# Altium schematic symbol library Capacitors.SchLib: 88 symbols (part 1 of 2)
Pins are listed as number, name and electrical type; pins without a type are passive.

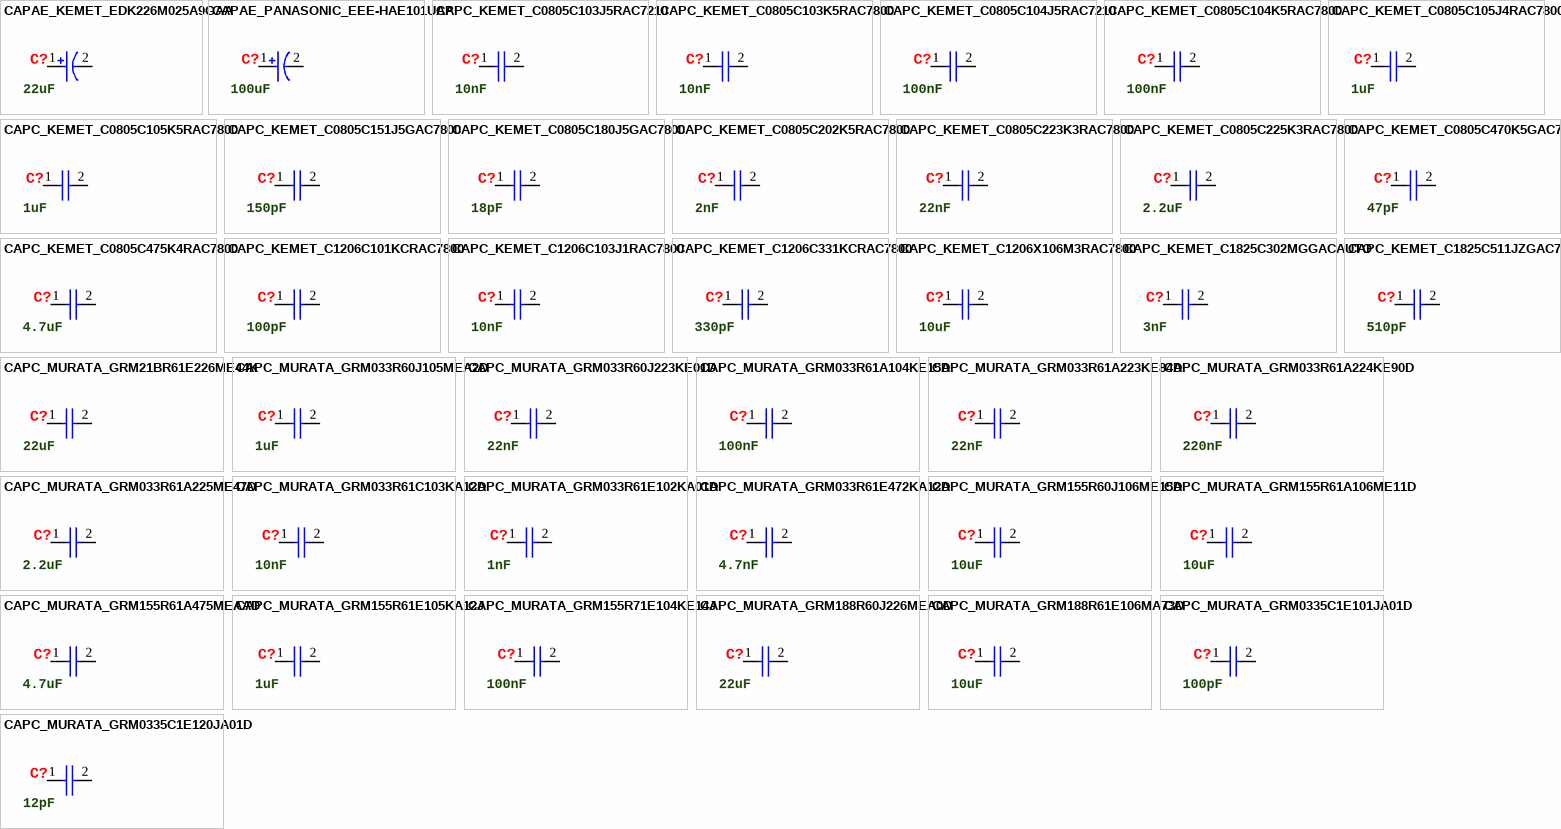
[diagram p0: symbols CAPAE_KEMET_EDK226M025A9GAA to CAPC_MURATA_GRM0335C1E120JA01D]

## CAPAE_KEMET_EDK226M025A9GAA
designator C?, comment 22uF
22 µF 25 V Aluminum Electrolytic Capacitor Radial, Can; Manufacturer: KEMET; Manufacturer Part Number: EDK226M025A9GAA; Tolerance: 20%; Voltage Rating (DC): 25V; Category: Aluminum Electrolytic Capacitors; Case/Package: Radial; Min Operating Temperature: -40°C; Max Operating Temperature: 85°C; Capacitance: 22uF; RoHS Compliant: Yes; ComponentLink1URL: https://api.kemet.com/component-edge/download/datasheet/EDK226M025A9GAA.pdf; ComponentLink1Description: Datasheet; Supplier 1: Digi-Key; Supplier Part Number 1: 399-6677-1-ND; Supplier 2: Mouser; Supplier Part Number 2: 80-EDK226M025A9GAA; Mounting Type: SMD/SMT
simulation model KEMET_EDK226M025A9GAA (Model Description)
footprint CAPAE7866X56N (Aluminum Electrolytic Capacitor, Body 6.60x6.60x5.65mm, IPC Medium Density)
footprint CAPAE7866X56L (Aluminum Electrolytic Capacitor, Body 6.60x6.60x5.65mm, IPC High Density)
footprint CAPAE7866X56M (Aluminum Electrolytic Capacitor, Body 6.60x6.60x5.65mm, IPC Low Density)
pins: 1, 2

## CAPAE_PANASONIC_EEE-HAE101UAP
designator C?, comment 100uF
100 µF ±20% 25V Aluminum Electrolytic Capacitor Radial, Can; Manufacturer: Panasonic; Manufacturer Part Number: EEE-HAE101UAP; Category: Aluminum Electrolytic Capacitors; Case/Package: Radial; Min Operating Temperature: -40°C; Max Operating Temperature: 105°C; Tolerance: 20%; Voltage Rating (DC): 25V; RoHS Compliant: Yes; ComponentLink1URL: https://industrial.panasonic.com/cdbs/www-data/pdf/RDE0000/ABA0000C1148.pdf; ComponentLink1Description: Datasheet; Capacitance: 100uF; Supplier 1: Digi-Key; Supplier Part Number 1: PCE4705CT-ND; Supplier 2: Mouser; Supplier Part Number 2: 667-EEE-HAE101UAP; Mounting Type: SMD/SMT
footprint CAPAE9583X62N (Aluminum Electrolytic Capacitor, Body 8.30x8.30x6.20mm, IPC Medium Density)
footprint CAPAE9583X62L (Aluminum Electrolytic Capacitor, Body 8.30x8.30x6.20mm, IPC High Density)
footprint CAPAE9583X62M (Aluminum Electrolytic Capacitor, Body 8.30x8.30x6.20mm, IPC Low Density)
simulation model EEETP1E101AP (Model Description)
pins: 1, 2

## CAPC_KEMET_C0805C103J5RAC7210
designator C?, comment 10nF
10 nF ±5% 50V Ceramic Capacitor X7R 0805 (2012 Metric); Manufacturer: KEMET; Manufacturer Part Number: C0805C103J5RAC7210; Category: Ceramic Capacitors; Case/Package: 0805; Min Operating Temperature: -55°C; Max Operating Temperature: 125°C; Tolerance: 5%; Capacitance: 10nF; Voltage Rating (DC): 50V; Dielectric: X7R; RoHS Compliant: Yes; ComponentLink1URL: https://connect.kemet.com:7667/gateway/IntelliData-ComponentDocumentation/1.0/download/datasheet/C0805C103J5RAC7210; ComponentLink1Description: Datasheet; Supplier 1: Digi-Key; Supplier Part Number 1: 399-17616-1-ND; Supplier 2: Mouser; Supplier Part Number 2: 80-C0805C103J5R7210; Mounting Type: SMD/SMT
footprint CAPC2012X95N (Chip Capacitor, EIA 0805, Metric 2012, Body 2.00x1.25mm, IPC Medium Density)
footprint CAPC2012X95L (Chip Capacitor, EIA 0805, Metric 2012, Body 2.00x1.25mm, IPC High Density)
footprint CAPC2012X95M (Chip Capacitor, EIA 0805, Metric 2012, Body 2.00x1.25mm, IPC Low Density)
simulation model C0805C103J5RAC7210 (Model Description)
pins: 1, 2

## CAPC_KEMET_C0805C103K5RAC7800
designator C?, comment 10nF
10 nF ±10% 50V Ceramic Capacitor X7R 0805 (2012 Metric); Manufacturer: KEMET; Manufacturer Part Number: C0805C103K5RAC7800; Category: Ceramic Capacitors; Case/Package: 0805; Min Operating Temperature: -55°C; Max Operating Temperature: 125°C; Tolerance: 10%; Dielectric: X7R; Voltage Rating (DC): 50V; RoHS Compliant: Yes; ComponentLink1Description: Datasheet; ComponentLink1URL: https://connect.kemet.com:7667/gateway/IntelliData-ComponentDocumentation/1.0/download/datasheet/C0805C103K5RACTU; Capacitance: 10nF; Supplier 1: Digi-Key; Supplier Part Number 1: 399-C0805C103K5RAC7800CT-ND; Supplier 2: Mouser; Supplier Part Number 2: 80-C0805C103K5R; Mounting Type: SMD/SMT
footprint CAPC2012X95N (Chip Capacitor, EIA 0805, Metric 2012, Body 2.00x1.25mm, IPC Medium Density)
footprint CAPC2012X95L (Chip Capacitor, EIA 0805, Metric 2012, Body 2.00x1.25mm, IPC High Density)
footprint CAPC2012X95M (Chip Capacitor, EIA 0805, Metric 2012, Body 2.00x1.25mm, IPC Low Density)
simulation model C0805C103K5RAC7800 (Model Description)
pins: 1, 2

## CAPC_KEMET_C0805C104J5RAC7210
designator C?, comment 100nF
100 nF ±5% 50V Ceramic Capacitor X7R 0805 (2012 Metric); Manufacturer: KEMET; Manufacturer Part Number: C0805C104J5RAC7210; Category: Ceramic Capacitors; Case/Package: 0805; Min Operating Temperature: -55°C; Max Operating Temperature: 125°C; Capacitance: 100nF; Tolerance: 5%; Dielectric: X7R; Voltage Rating (DC): 50V; RoHS Compliant: Yes; ComponentLink1URL: https://connect.kemet.com:7667/gateway/IntelliData-ComponentDocumentation/1.0/download/datasheet/C0805C103J5RAC7210; ComponentLink1Description: Datasheet; Supplier 1: Digi-Key; Supplier Part Number 1: 399-C0805C104J5RAC7210CT-ND; Supplier 2: Mouser; Supplier Part Number 2: 80-C0805C104J5RACLR; Mounting Type: SMD/SMT
footprint CAPC2012X95N (Chip Capacitor, EIA 0805, Metric 2012, Body 2.00x1.25mm, IPC Medium Density)
footprint CAPC2012X95L (Chip Capacitor, EIA 0805, Metric 2012, Body 2.00x1.25mm, IPC High Density)
footprint CAPC2012X95M (Chip Capacitor, EIA 0805, Metric 2012, Body 2.00x1.25mm, IPC Low Density)
simulation model C0805C104J5RAC7210 (Model Description)
pins: 1, 2

## CAPC_KEMET_C0805C104K5RAC7800
designator C?, comment 100nF
100 nF ±10% 50V Ceramic Capacitor X7R 0805 (2012 Metric); Manufacturer: KEMET; Manufacturer Part Number: C0805C104K5RAC7800; Category: Ceramic Capacitors; Case/Package: 0805; Min Operating Temperature: -55°C; Max Operating Temperature: 125°C; Tolerance: 10%; Dielectric: X7R; Voltage Rating (DC): 50V; RoHS Compliant: Yes; ComponentLink1URL: https://connect.kemet.com:7667/gateway/IntelliData-ComponentDocumentation/1.0/download/datasheet/C0805C105K5RACTU; ComponentLink1Description: Datasheet; Capacitance: 100nF; Supplier 1: Digi-Key; Supplier Part Number 1: 399-C0805C104K5RAC7800CT-ND; Supplier 2: Mouser; Supplier Part Number 2: 80-C0805C104K5R; Mounting Type: SMD/SMT
footprint CAPC2012X95N (Chip Capacitor, EIA 0805, Metric 2012, Body 2.00x1.25mm, IPC Medium Density)
footprint CAPC2012X95M (Chip Capacitor, EIA 0805, Metric 2012, Body 2.00x1.25mm, IPC Low Density)
footprint CAPC2012X95L (Chip Capacitor, EIA 0805, Metric 2012, Body 2.00x1.25mm, IPC High Density)
simulation model C0805C104K5RAC7800 (Model Description)
pins: 1, 2

## CAPC_KEMET_C0805C105J4RAC7800
designator C?, comment 1uF
1 µF ±5% 16V Ceramic Capacitor X7R 0805 (2012 Metric); Manufacturer: KEMET; Manufacturer Part Number: C0805C105J4RAC7800; Category: Ceramic Capacitors; Case/Package: 0805; Min Operating Temperature: -55°C; Max Operating Temperature: 125°C; Capacitance: 1uF; Tolerance: 5%; Dielectric: X7R; Voltage Rating (DC): 16V; RoHS Compliant: Yes; ComponentLink1URL: https://connect.kemet.com:7667/gateway/IntelliData-ComponentDocumentation/1.0/download/datasheet/C0805C105J4RACTU; ComponentLink1Description: Datasheet; Supplier 1: Digi-Key; Supplier Part Number 1: 399-C0805C105J4RAC7800CT-ND; Supplier 2: Mouser; Supplier Part Number 2: 80-C0805C105J4R; Mounting Type: SMD/SMT
footprint CAPC2012X145N (Chip Capacitor, EIA 0805, Metric 2012, Body 2.00x1.25mm, IPC Medium Density)
footprint CAPC2012X145L (Chip Capacitor, EIA 0805, Metric 2012, Body 2.00x1.25mm, IPC High Density)
footprint CAPC2012X145M (Chip Capacitor, EIA 0805, Metric 2012, Body 2.00x1.25mm, IPC Low Density)
simulation model C0805C105J4RAC7800 (Model Description)
pins: 1, 2

## CAPC_KEMET_C0805C105K5RAC7800
designator C?, comment 1uF
1 µF ±10% 50V Ceramic Capacitor X7R 0805 (2012 Metric); Manufacturer: KEMET; Manufacturer Part Number: C0805C105K5RAC7800; Category: Ceramic Capacitors; Case/Package: 0805; Min Operating Temperature: -55°C; Max Operating Temperature: 125°C; Tolerance: 10%; Voltage Rating (DC): 50V; Dielectric: X7R; RoHS Compliant: Yes; ComponentLink1URL: https://connect.kemet.com:7667/gateway/IntelliData-ComponentDocumentation/1.0/download/datasheet/C0805C105K5RACTU; ComponentLink1Description: Datasheet; Capacitance: 1uF; Supplier 1: Digi-Key; Supplier Part Number 1: 399-C0805C105K5RAC7800CT-ND; Supplier 2: Mouser; Supplier Part Number 2: 80-C0805C105K5R; Mounting Type: SMD/SMT
footprint CAPC2012X145N (Chip Capacitor, EIA 0805, Metric 2012, Body 2.00x1.25mm, IPC Medium Density)
footprint CAPC2012X145L (Chip Capacitor, EIA 0805, Metric 2012, Body 2.00x1.25mm, IPC High Density)
footprint CAPC2012X145M (Chip Capacitor, EIA 0805, Metric 2012, Body 2.00x1.25mm, IPC Low Density)
simulation model C0805C105K5RAC7800 (Model Description)
pins: 1, 2

## CAPC_KEMET_C0805C151J5GAC7800
designator C?, comment 150pF
150 pF ±5% 50V Ceramic Capacitor C0G, NP0 0805 (2012 Metric); Manufacturer: KEMET; Manufacturer Part Number: C0805C151J5GAC7800; Category: Ceramic Capacitors; Case/Package: 0805; Min Operating Temperature: -55°C; Max Operating Temperature: 125°C; Tolerance: 5%; Dielectric: NP0; Voltage Rating (DC): 50V; RoHS Compliant: Yes; ComponentLink1URL: https://connect.kemet.com:7667/gateway/IntelliData-ComponentDocumentation/1.0/download/datasheet/C0805C180J5GACTU; ComponentLink1Description: Datasheet; Capacitance: 150pF; Supplier 1: Digi-Key; Supplier Part Number 1: 399-C0805C151J5GAC7800CT-ND; Supplier 2: Mouser; Supplier Part Number 2: 80-C0805C151J5G; Mounting Type: SMD/SMT
footprint CAPC2012X95N (Chip Capacitor, EIA 0805, Metric 2012, Body 2.00x1.25mm, IPC Medium Density)
footprint CAPC2012X95L (Chip Capacitor, EIA 0805, Metric 2012, Body 2.00x1.25mm, IPC High Density)
footprint CAPC2012X95M (Chip Capacitor, EIA 0805, Metric 2012, Body 2.00x1.25mm, IPC Low Density)
simulation model C0805C151J5GAC7800 (Model Description)
pins: 1, 2

## CAPC_KEMET_C0805C180J5GAC7800
designator C?, comment 18pF
18 pF ±5% 50V Ceramic Capacitor C0G, NP0 0805 (2012 Metric); Manufacturer: KEMET; Manufacturer Part Number: C0805C180J5GAC7800; Category: Ceramic Capacitors; Case/Package: 0805; Min Operating Temperature: -55°C; Max Operating Temperature: 125°C; Tolerance: 5%; Dielectric: C0G; Voltage Rating (DC): 50V; RoHS Compliant: Yes; ComponentLink1URL: https://connect.kemet.com:7667/gateway/IntelliData-ComponentDocumentation/1.0/download/datasheet/C0805C180J5GACTU; ComponentLink1Description: Datasheet; Capacitance: 18pF; Supplier 1: Digi-Key; Supplier Part Number 1: 399-C0805C180J5GAC7800CT-ND; Supplier 2: Mouser; Supplier Part Number 2: 80-C0805C180J5G; Mounting Type: SMD/SMT
footprint CAPC2012X95N (Chip Capacitor, EIA 0805, Metric 2012, Body 2.00x1.25mm, IPC Medium Density)
footprint CAPC2012X95L (Chip Capacitor, EIA 0805, Metric 2012, Body 2.00x1.25mm, IPC High Density)
footprint CAPC2012X95M (Chip Capacitor, EIA 0805, Metric 2012, Body 2.00x1.25mm, IPC Low Density)
simulation model C0805C180J5GAC7800 (Model Description)
pins: 1, 2

## CAPC_KEMET_C0805C202K5RAC7800
designator C?, comment 2nF
2 nF ±10% 50V Ceramic Capacitor X7R 0805 (2012 Metric); Manufacturer: KEMET; Manufacturer Part Number: C0805C202K5RAC7800; Category: Ceramic Capacitors; ComponentLink1Description: Datasheet; ComponentLink1URL: https://content.kemet.com/datasheets/KEM_C1002_X7R_SMD.pdf; Capacitance: 2nF; Dielectric: X7R; Max Operating Temperature: 125°C; Min Operating Temperature: -55°C; RoHS Compliant: Yes; Tolerance: 10%; Voltage Rating (DC): 50V; Supplier 1: Digi-Key; Supplier Part Number 1: 399-C0805C202K5RAC7800CT-ND; Supplier 2: Mouser; Supplier Part Number 2: 80-C0805C202K5R; Case/Package: 0805; Mounting Type: SMD/SMT
footprint CAPC2012X95N (Chip Capacitor, EIA 0805, Metric 2012, Body 2.00x1.25mm, IPC Medium Density)
footprint CAPC2012X95M (Chip Capacitor, EIA 0805, Metric 2012, Body 2.00x1.25mm, IPC Low Density)
footprint CAPC2012X95L (Chip Capacitor, EIA 0805, Metric 2012, Body 2.00x1.25mm, IPC High Density)
simulation model C0805C222K5RAC7800 (Model Description)
pins: 1, 2

## CAPC_KEMET_C0805C223K3RAC7800
designator C?, comment 22nF
22 nF ±10% 25V Ceramic Capacitor X7R 0805 (2012 Metric); Manufacturer: KEMET; Manufacturer Part Number: C0805C223K3RAC7800; Category: Ceramic Capacitors; Case/Package: 0805; Min Operating Temperature: -55°C; Max Operating Temperature: 125°C; Tolerance: 10%; Voltage Rating (DC): 25V; Dielectric: X7R; RoHS Compliant: Yes; ComponentLink1URL: https://connect.kemet.com:7667/gateway/IntelliData-ComponentDocumentation/1.0/download/datasheet/C0805C223K3RACTU; ComponentLink1Description: Datasheet; Capacitance: 22nF; Supplier 1: Digi-Key; Supplier Part Number 1: 399-C0805C223K3RAC7800CT-ND; Supplier 2: Mouser; Supplier Part Number 2: 80-C0805C223K3R; Mounting Type: SMD/SMT
footprint CAPC2012X95N (Chip Capacitor, EIA 0805, Metric 2012, Body 2.00x1.25mm, IPC Medium Density)
footprint CAPC2012X95L (Chip Capacitor, EIA 0805, Metric 2012, Body 2.00x1.25mm, IPC High Density)
footprint CAPC2012X95M (Chip Capacitor, EIA 0805, Metric 2012, Body 2.00x1.25mm, IPC Low Density)
simulation model C0805C223K3RAC7800 (Model Description)
pins: 1, 2

## CAPC_KEMET_C0805C225K3RAC7800
designator C?, comment 2.2uF
2.2 µF ±10% 25V Ceramic Capacitor X7R 0805 (2012 Metric); Manufacturer: KEMET; Manufacturer Part Number: C0805C225K3RAC7800; Category: Ceramic Capacitors; Case/Package: 0805; Min Operating Temperature: -55°C; Max Operating Temperature: 125°C; Tolerance: 10%; Dielectric: X7R; Voltage Rating (DC): 25V; RoHS Compliant: Yes; ComponentLink1URL: https://connect.kemet.com:7667/gateway/IntelliData-ComponentDocumentation/1.0/download/datasheet/C0805C225K3RAC7800; ComponentLink1Description: Datasheet; Capacitance: 2.2uF; Supplier 1: Digi-Key; Supplier Part Number 1: 399-11941-1-ND; Supplier 2: Mouser; Supplier Part Number 2: 80-C0805C225K3R; Mounting Type: SMD/SMT
footprint CAPC2012X145N (Chip Capacitor, EIA 0805, Metric 2012, Body 2.00x1.25mm, IPC Medium Density)
footprint CAPC2012X145L (Chip Capacitor, EIA 0805, Metric 2012, Body 2.00x1.25mm, IPC High Density)
footprint CAPC2012X145M (Chip Capacitor, EIA 0805, Metric 2012, Body 2.00x1.25mm, IPC Low Density)
simulation model C0805C225K3RAC7800 (Model Description)
pins: 1, 2

## CAPC_KEMET_C0805C470K5GAC7800
designator C?, comment 47pF
47 pF ±10% 50V Ceramic Capacitor C0G, NP0 0805 (2012 Metric); Manufacturer: KEMET; Manufacturer Part Number: C0805C470K5GAC7800; Category: Ceramic Capacitors; Case/Package: 0805; Min Operating Temperature: -55°C; Max Operating Temperature: 125°C; Capacitance: 47pF; Tolerance: 10%; Voltage Rating (DC): 50V; Dielectric: C0G; RoHS Compliant: Yes; ComponentLink1URL: https://connect.kemet.com:7667/gateway/IntelliData-ComponentDocumentation/1.0/download/datasheet/C0805C470K5GACTU; ComponentLink1Description: Datasheet; Supplier 1: Digi-Key; Supplier Part Number 1: 399-C0805C470K5GAC7800CT-ND; Supplier 2: Mouser; Supplier Part Number 2: 80-C0805C470K5G; Mounting Type: SMD/SMT
footprint CAPC2012X95N (Chip Capacitor, EIA 0805, Metric 2012, Body 2.00x1.25mm, IPC Medium Density)
footprint CAPC2012X95L (Chip Capacitor, EIA 0805, Metric 2012, Body 2.00x1.25mm, IPC High Density)
footprint CAPC2012X95M (Chip Capacitor, EIA 0805, Metric 2012, Body 2.00x1.25mm, IPC Low Density)
simulation model C0805C470K5GAC7800 (Model Description)
pins: 1, 2

## CAPC_KEMET_C0805C475K4RAC7800
designator C?, comment 4.7uF
4.7 µF ±10% 16V Ceramic Capacitor X7R 0805 (2012 Metric); Manufacturer: KEMET; Manufacturer Part Number: C0805C475K4RAC7800; Category: Ceramic Capacitors; Case/Package: 0805; Min Operating Temperature: -55°C; Max Operating Temperature: 125°C; Capacitance: 4.7uF; Tolerance: 10%; Voltage Rating (DC): 16V; Dielectric: X7R; RoHS Compliant: Yes; ComponentLink1URL: https://connect.kemet.com:7667/gateway/IntelliData-ComponentDocumentation/1.0/download/datasheet/C0805C475K4RACTU; ComponentLink1Description: Datasheet; Supplier 1: Digi-Key; Supplier Part Number 1: 399-C0805C475K4RAC7800CT-ND; Supplier 2: Mouser; Supplier Part Number 2: 80-C0805C475K4R; Mounting Type: SMD/SMT
simulation model C0805C475K4RAC7800 (Model Description)
footprint CAPC2012X145N (Chip Capacitor, EIA 0805, Metric 2012, Body 2.00x1.25mm, IPC Medium Density)
footprint CAPC2012X145L (Chip Capacitor, EIA 0805, Metric 2012, Body 2.00x1.25mm, IPC High Density)
footprint CAPC2012X145M (Chip Capacitor, EIA 0805, Metric 2012, Body 2.00x1.25mm, IPC Low Density)
pins: 1, 2

## CAPC_KEMET_C1206C101KCRAC7800
designator C?, comment 100pF
100 pF ±10% 500V Ceramic Capacitor X7R 1206 (3216 Metric); Manufacturer: KEMET; Manufacturer Part Number: C1206C101KCRAC7800; Category: Ceramic Capacitors; Case/Package: 1206; Min Operating Temperature: -55°C; Max Operating Temperature: 125°C; Capacitance: 100pF; Tolerance: 10%; Dielectric: X7R; Voltage Rating (DC): 500V; RoHS Compliant: Yes; ComponentLink1URL: https://connect.kemet.com:7667/gateway/IntelliData-ComponentDocumentation/1.0/download/datasheet/C1206C101KCRACTU; ComponentLink1Description: Datasheet; Mounting Type: SMD/SMT; Supplier 1: Digi-Key; Supplier 2: Mouser; Supplier Part Number 1: 399-C1206C101KCRAC7800CT-ND; Supplier Part Number 2: 80-C1206C101KCR
simulation model C1206C101KCRAC7800 (Model Description)
footprint CAPC3216X110N (Chip Capacitor, EIA 1206, Metric 3216, Body 3.20x1.60mm, IPC Medium Density)
footprint CAPC3216X110L (Chip Capacitor, EIA 1206, Metric 3216, Body 3.20x1.60mm, IPC High Density)
footprint CAPC3216X110M (Chip Capacitor, EIA 1206, Metric 3216, Body 3.20x1.60mm, IPC Low Density)
pins: 1, 2

## CAPC_KEMET_C1206C103J1RAC7800
designator C?, comment 10nF
10 nF ±5% 100V Ceramic Capacitor X7R 1206 (3216 Metric); Manufacturer: KEMET; Manufacturer Part Number: C1206C103J1RACTU; Category: Ceramic Capacitors; Case/Package: 1206; Min Operating Temperature: -55°C; Max Operating Temperature: 125°C; Capacitance: 10nF; Tolerance: 5%; Voltage Rating (DC): 100V; Dielectric: X7R; RoHS Compliant: Yes; ComponentLink1URL: https://connect.kemet.com:7667/gateway/IntelliData-ComponentDocumentation/1.0/download/datasheet/C1206C103J1RACTU; ComponentLink1Description: Datasheet; Mounting Type: SMD/SMT; Supplier 1: Digi-Key; Supplier 2: Mouser; Supplier Part Number 1: 399-C1206C103J1RAC7800CT-ND; Supplier Part Number 2: 80-C1206C103J1R
footprint CAPC3216X95N (Chip Capacitor, EIA 1206, Metric 3216, Body 3.20x1.60mm, IPC Medium Density)
footprint CAPC3216X95L (Chip Capacitor, EIA 1206, Metric 3216, Body 3.20x1.60mm, IPC High Density)
footprint CAPC3216X95M (Chip Capacitor, EIA 1206, Metric 3216, Body 3.20x1.60mm, IPC Low Density)
simulation model C1206C103J1RAC7800 (Model Description)
pins: 1, 2

## CAPC_KEMET_C1206C331KCRAC7800
designator C?, comment 330pF
330 pF ±10% 500V Ceramic Capacitor X7R 1206 (3216 Metric); Manufacturer: KEMET; Manufacturer Part Number: C1206C331KCRACTU; Voltage Rating (DC): 1kV; Category: Ceramic Capacitors; Case/Package: 1206; Min Operating Temperature: -55°C; Max Operating Temperature: 125°C; Capacitance: 330pF; Tolerance: 10%; Dielectric: X7R; RoHS Compliant: Yes; ComponentLink1URL: https://connect.kemet.com:7667/gateway/IntelliData-ComponentDocumentation/1.0/download/datasheet/C1206C331KCRACTU; ComponentLink1Description: Datasheet; Mounting Type: SMD/SMT; Supplier 1: Digi-Key; Supplier 2: Mouser; Supplier Part Number 1: 399-C1206C331KCRAC7800CT-ND; Supplier Part Number 2: 80-C1206C331KCR
footprint CAPC3216X110N (Chip Capacitor, EIA 1206, Metric 3216, Body 3.20x1.60mm, IPC Medium Density)
footprint CAPC3216X110L (Chip Capacitor, EIA 1206, Metric 3216, Body 3.20x1.60mm, IPC High Density)
footprint CAPC3216X110M (Chip Capacitor, EIA 1206, Metric 3216, Body 3.20x1.60mm, IPC Low Density)
simulation model Capacitor (Model Description)
pins: 1, 2

## CAPC_KEMET_C1206X106M3RAC7800
designator C?, comment 10uF
10 µF ±20% 25V Ceramic Capacitor X7R 1206 (3216 Metric); Manufacturer: KEMET; Manufacturer Part Number: C1206X106M3RAC7800; Category: Ceramic Capacitors; Case/Package: 1206; Min Operating Temperature: -55°C; Max Operating Temperature: 125°C; Tolerance: 20%; ComponentLink1URL: https://connect.kemet.com:7667/gateway/IntelliData-ComponentDocumentation/1.0/download/datasheet/C1206X106M3RAC7800; ComponentLink1Description: Datasheet; Capacitance: 10uF; Dielectric: X7R; RoHS Compliant: Yes; Voltage Rating (DC): 25V; Supplier 1: Digi-Key; Supplier Part Number 1: 399-15732-1-ND; Supplier 2: Mouser; Supplier Part Number 2: 80-C1206X106M3R; Mounting Type: SMD/SMT
footprint CAPC3216X180N (Chip Capacitor, EIA 1206, Metric 3216, Body 3.20x1.60mm, IPC Medium Density)
footprint CAPC3216X180L (Chip Capacitor, EIA 1206, Metric 3216, Body 3.20x1.60mm, IPC High Density)
footprint CAPC3216X180M (Chip Capacitor, EIA 1206, Metric 3216, Body 3.20x1.60mm, IPC Low Density)
simulation model C1206X106M3RAC7800 (Model Description)
pins: 1, 2

## CAPC_KEMET_C1825C302MGGACAUTO
designator C?, comment 3nF
3 nF ±20% 2000V (2kV) Ceramic Capacitor C0G, NP0 1825 (4564 Metric); Manufacturer Part Number: C1825C302MGGACAUTO; Manufacturer: KEMET; Capacitance: 3nF; Case/Package: 1825; Category: Ceramic Capacitors; ComponentLink1Description: Datasheet; ComponentLink1URL: https://connect.kemet.com:7667/gateway/IntelliData-ComponentDocumentation/1.0/download/datasheet/C1825C302MGGACAUTO; Dielectric: C0G; Max Operating Temperature: 125°C; Min Operating Temperature: -55°C; Mounting Type: SMD/SMT; RoHS Compliant: Yes; Supplier 1: Digi-Key; Supplier 2: Mouser; Supplier Part Number 1: 399-C1825C302MGGACAUTOCT-ND; Supplier Part Number 2: 80-C1825C302MGGACATO; Tolerance: 20%; Voltage Rating (DC): 2000V
footprint CAPC4564X27N (Chip Capacitor, EIA 1825, Metric 4564, Body 4.50x6.40mm, IPC Medium Density)
footprint CAPC4564X27L (Chip Capacitor, EIA 1825, Metric 4564, Body 4.50x6.40mm, IPC High Density)
footprint CAPC4564X27M (Chip Capacitor, EIA 1825, Metric 4564, Body 4.50x6.40mm, IPC Low Density)
simulation model Capacitor (Model Description)
pins: 1, 2

## CAPC_KEMET_C1825C511JZGAC7800
designator C?, comment 510pF
510 pF ±5% 2500V (2.5kV) Ceramic Capacitor C0G, NP0 1825 (4564 Metric); Manufacturer: KEMET; Manufacturer Part Number: C1825C511JZGAC7800; Category: Ceramic Capacitors; Case/Package: 1825; Min Operating Temperature: -55°C; Max Operating Temperature: 125°C; Capacitance: 510pF; Tolerance: 5%; Dielectric: C0G; RoHS Compliant: Yes; ComponentLink1URL: https://connect.kemet.com:7667/gateway/IntelliData-ComponentDocumentation/1.0/download/datasheet/C1825C511JZGACTU; ComponentLink1Description: Datasheet; Mounting Type: SMD/SMT; Supplier 1: Digi-Key; Supplier 2: Mouser; Supplier Part Number 1: 399-C1825C511JZGAC7800CT-ND; Supplier Part Number 2: 80-C1825C511JZG; Voltage Rating (DC): 2500V
simulation model C1825C511JZGACTU (Model Description)
footprint CAPC4564X16N (Chip Capacitor, EIA 1825, Metric 4564, Body 4.50x6.40mm, IPC Medium Density)
footprint CAPC4564X16L (Chip Capacitor, EIA 1825, Metric 4564, Body 4.50x6.40mm, IPC High Density)
footprint CAPC4564X16M (Chip Capacitor, EIA 1825, Metric 4564, Body 4.50x6.40mm, IPC Low Density)
pins: 1, 2

## CAPC_MURATA_GRM21BR61E226ME44K
designator C?, comment 22uF
22 µF ±20% 25V Ceramic Capacitor X5R 0805 (2012 Metric); Manufacturer: Murata; Manufacturer Part Number: GRM21BR61E226ME44K; Category: Ceramic Capacitors; Case/Package: 0805; Min Operating Temperature: -55°C; Max Operating Temperature: 85°C; Tolerance: 20%; Dielectric: X5R; Voltage Rating (DC): 25V; RoHS Compliant: Yes; ComponentLink1URL: https://search.murata.co.jp/Ceramy/image/img/A01X/G101/ENG/GRM21BR61E226ME44-01.pdf; ComponentLink1Description: Datasheet; Capacitance: 22uF; Supplier 1: Digi-Key; Supplier Part Number 1: 490-14661-1-ND; Supplier 2: Mouser; Supplier Part Number 2: 81-GRM21BR61E226ME4K; Mounting Type: SMD/SMT
footprint CAPC2012X145N (Chip Capacitor, EIA 0805, Metric 2012, Body 2.00x1.25mm, IPC Medium Density)
footprint CAPC2012X145L (Chip Capacitor, EIA 0805, Metric 2012, Body 2.00x1.25mm, IPC High Density)
footprint CAPC2012X145M (Chip Capacitor, EIA 0805, Metric 2012, Body 2.00x1.25mm, IPC Low Density)
simulation model GRM21BR61E226ME44_DC0V_25degC (Model Description)
pins: 1, 2

## CAPC_MURATA_GRM033R60J105MEA2D
designator C?, comment 1uF
1 µF ±20% 6.3V Ceramic Capacitor X5R 0201 (0603 Metric); Manufacturer: Murata; Manufacturer Part Number: GRM033R60J105MEA2D; Category: Ceramic Capacitors; Case/Package: 0201; Min Operating Temperature: -55°C; Max Operating Temperature: 85°C; Tolerance: 20%; Voltage Rating (DC): 6.3V; Dielectric: X5R; RoHS Compliant: Yes; ComponentLink1URL: https://datasheet.ciiva.com/18699/grm033r60j105mea2-02-18699https://search.murata.co.jp/Ceramy/image/img/A01X/G101/ENG/GRM033R60J105MEA2-02.pdf520.pdf?src-supplier=Digi-Key; ComponentLink1Description: Datasheet; Capacitance: 1uF; Supplier 1: Digi-Key; Supplier Part Number 1: 490-7229-1-ND; Supplier 2: Mouser; Supplier Part Number 2: 81-GRM033R60J105ME2D; Mounting Type: SMD/SMT
footprint CAPC0603X33N (Chip Capacitor, EIA 0201, Metric 0603, Body 0.60x0.30mm, IPC Medium Density)
footprint CAPC0603X33M (Chip Capacitor, EIA 0201, Metric 0603, Body 0.60x0.30mm, IPC Low Density)
footprint CAPC0603X33L (Chip Capacitor, EIA 0201, Metric 0603, Body 0.60x0.30mm, IPC High Density)
simulation model GRM033R60J105MEA2_DC0V_25degC (Model Description)
pins: 1, 2

## CAPC_MURATA_GRM033R60J223KE01D
designator C?, comment 22nF
22 nF ±10% 6.3V Ceramic Capacitor X5R 0201 (0603 Metric); Manufacturer: Murata; Manufacturer Part Number: GRM033R60J223KE01D; Category: Ceramic Capacitors; Case/Package: 0201; Min Operating Temperature: -55°C; Max Operating Temperature: 85°C; Tolerance: 10%; Dielectric: X5R; Voltage Rating (DC): 6.3V; RoHS Compliant: Yes; ComponentLink1URL: https://datasheet.ciiva.com/29199/455651-da-01-en-vs-kondensator-0201-291https://search.murata.co.jp/Ceramy/image/img/A01X/G101/ENG/GRM033R60J223KE01-01.pdf99265.pdf?src-supplier=Conrad; ComponentLink1Description: Datasheet; Capacitance: 22nF; Supplier 1: Digi-Key; Supplier Part Number 1: 490-3169-1-ND; Supplier 2: Mouser; Supplier Part Number 2: 81-GRM033R60J223KE1D; Mounting Type: SMD/SMT
footprint CAPC0603X33N (Chip Capacitor, EIA 0201, Metric 0603, Body 0.60x0.30mm, IPC Medium Density)
footprint CAPC0603X33L (Chip Capacitor, EIA 0201, Metric 0603, Body 0.60x0.30mm, IPC High Density)
footprint CAPC0603X33M (Chip Capacitor, EIA 0201, Metric 0603, Body 0.60x0.30mm, IPC Low Density)
simulation model GRM033R60J223KE01_DC0V_25degC (Model Description)
pins: 1, 2

## CAPC_MURATA_GRM033R61A104KE15D
designator C?, comment 100nF
100 nF ±10% 10V Ceramic Capacitor X5R 0201 (0603 Metric); Manufacturer: Murata; Manufacturer Part Number: GRM033R61A104KE15D; Category: Ceramic Capacitors; Case/Package: 0201; Min Operating Temperature: -55°C; Max Operating Temperature: 85°C; Tolerance: 10%; Dielectric: X5R; Voltage Rating (DC): 10V; RoHS Compliant: Yes; ComponentLink1URL: https://search.murata.co.jp/Ceramy/image/img/A01X/G101/ENG/GRM033R61A104KE15-01.pdf; ComponentLink1Description: Datasheet; Capacitance: 100nF; Supplier 1: Digi-Key; Supplier Part Number 1: 490-5881-1-ND; Supplier 2: Mouser; Supplier Part Number 2: 81-GRM033R61A104KE5D; Mounting Type: SMD/SMT
footprint CAPC0603X33N (Chip Capacitor, EIA 0201, Metric 0603, Body 0.60x0.30mm, IPC Medium Density)
footprint CAPC0603X33M (Chip Capacitor, EIA 0201, Metric 0603, Body 0.60x0.30mm, IPC Low Density)
footprint CAPC0603X33L (Chip Capacitor, EIA 0201, Metric 0603, Body 0.60x0.30mm, IPC High Density)
simulation model GRM033R61A104KE15_DC0V_25degC (Model Description)
pins: 1, 2

## CAPC_MURATA_GRM033R61A223KE84D
designator C?, comment 22nF
22 nF ±10% 10V Ceramic Capacitor X5R 0201 (0603 Metric); Manufacturer: Murata; Manufacturer Part Number: GRM033R61A223KE84D; Category: Ceramic Capacitors; Case/Package: 0201; Min Operating Temperature: -55°C; Max Operating Temperature: 85°C; Tolerance: 10%; Dielectric: X5R; Voltage Rating (DC): 10V; RoHS Compliant: Yes; ComponentLink1URL: https://search.murata.co.jp/Ceramy/image/img/A01X/G101/ENG/GRM033R61A223KE84-01.pdf; ComponentLink1Description: Datasheet; Capacitance: 22nF; Supplier 1: Digi-Key; Supplier Part Number 1: 490-13334-1-ND; Supplier 2: Mouser; Supplier Part Number 2: 81-GRM033R61A223KE4D; Mounting Type: SMD/SMT
footprint CAPC0603X33N (Chip Capacitor, EIA 0201, Metric 0603, Body 0.60x0.30mm, IPC Medium Density)
footprint CAPC0603X33M (Chip Capacitor, EIA 0201, Metric 0603, Body 0.60x0.30mm, IPC Low Density)
footprint CAPC0603X33L (Chip Capacitor, EIA 0201, Metric 0603, Body 0.60x0.30mm, IPC High Density)
simulation model GRM033R61A223KE84_DC0V_25degC (Model Description)
pins: 1, 2

## CAPC_MURATA_GRM033R61A224KE90D
designator C?, comment 220nF
220 nF ±10% 10V Ceramic Capacitor X5R 0201 (0603 Metric); Manufacturer: Murata; Manufacturer Part Number: GRM033R61A224KE90D; Category: Ceramic Capacitors; Case/Package: 0201; Min Operating Temperature: -55°C; Max Operating Temperature: 85°C; Tolerance: 10%; Dielectric: X5R; Voltage Rating (DC): 10V; RoHS Compliant: Yes; ComponentLink1URL: https://search.murata.co.jp/Ceramy/image/img/A01X/G101/ENG/GRM033R61A224KE90-01.pdf; ComponentLink1Description: Datasheet; Supplier 1: Digi-Key; Supplier Part Number 1: 490-10411-1-ND; Supplier 2: Mouser; Supplier Part Number 2: 81-GRM33R61A224KE90D; Capacitance: 220nF; Mounting Type: SMD/SMT
footprint CAPC0603X33N (Chip Capacitor, EIA 0201, Metric 0603, Body 0.60x0.30mm, IPC Medium Density)
footprint CAPC0603X33M (Chip Capacitor, EIA 0201, Metric 0603, Body 0.60x0.30mm, IPC Low Density)
footprint CAPC0603X33L (Chip Capacitor, EIA 0201, Metric 0603, Body 0.60x0.30mm, IPC High Density)
simulation model GRM033R61A224KE90_DC0V_25degC (Model Description)
pins: 1, 2

## CAPC_MURATA_GRM033R61A225ME47D
designator C?, comment 2.2uF
2.2 µF ±20% 10V Ceramic Capacitor X5R 0201 (0603 Metric); Manufacturer: Murata; Manufacturer Part Number: GRM033R61A225ME47D; Category: Ceramic Capacitors; Case/Package: 0201; Min Operating Temperature: -55°C; Max Operating Temperature: 85°C; Tolerance: 20%; Voltage Rating (DC): 10V; Dielectric: X5R; RoHS Compliant: Yes; ComponentLink1URL: https://www.murata.com/~/media/webrenewal/support/library/catalog/products/capacitor/mlcc/c02e.ashx?la=ehttps://search.murata.co.jp/Ceramy/image/img/A01X/G101/ENG/GRM033R61A225ME47-01.pdfn-us&src-supplier=Digi-Key; ComponentLink1Description: Datasheet; Capacitance: 2.2uF; Supplier 1: Digi-Key; Supplier Part Number 1: 490-13228-1-ND; Supplier 2: Mouser; Supplier Part Number 2: 81-GRM033R61A225ME7D; Mounting Type: SMD/SMT
footprint CAPC0603X33N (Chip Capacitor, EIA 0201, Metric 0603, Body 0.60x0.30mm, IPC Medium Density)
footprint CAPC0603X33M (Chip Capacitor, EIA 0201, Metric 0603, Body 0.60x0.30mm, IPC Low Density)
footprint CAPC0603X33L (Chip Capacitor, EIA 0201, Metric 0603, Body 0.60x0.30mm, IPC High Density)
simulation model GRM033R61A225ME47_DC0V_25degC (Model Description)
pins: 1, 2

## CAPC_MURATA_GRM033R61C103KA12D
designator C?, comment 10nF
10 nF ±10% 16V Ceramic Capacitor X5R 0201 (0603 Metric); Manufacturer: Murata; Manufacturer Part Number: GRM033R61C103KA12D; Category: Ceramic Capacitors; Case/Package: 0201; Min Operating Temperature: -55°C; Max Operating Temperature: 85°C; Voltage Rating (DC): 16V; Tolerance: 10%; Dielectric: X5R; RoHS Compliant: Yes; ComponentLink1URL: https://search.murata.co.jp/Ceramy/image/img/A01X/G101/ENG/GRM033R61C103KA12-01.pdf; ComponentLink1Description: Datasheet; Capacitance: 10nF; Supplier 1: Digi-Key; Supplier Part Number 1: 490-7223-1-ND; Supplier 2: Mouser; Supplier Part Number 2: 81-GRM033R61C103KA2D; Mounting Type: SMD/SMT
footprint CAPC0603X33N (Chip Capacitor, EIA 0201, Metric 0603, Body 0.60x0.30mm, IPC Medium Density)
footprint CAPC0603X33M (Chip Capacitor, EIA 0201, Metric 0603, Body 0.60x0.30mm, IPC Low Density)
footprint CAPC0603X33L (Chip Capacitor, EIA 0201, Metric 0603, Body 0.60x0.30mm, IPC High Density)
simulation model GRM033R61C103KA12_DC0V_25degC (Model Description)
pins: 1, 2

## CAPC_MURATA_GRM033R61E102KA01D
designator C?, comment 1nF
1 nF ±10% 25V Ceramic Capacitor X5R 0201 (0603 Metric); Manufacturer: Murata; Manufacturer Part Number: GRM033R61E102KA01D; Category: Ceramic Capacitors; Case/Package: 0201; Min Operating Temperature: -55°C; Max Operating Temperature: 85°C; Tolerance: 10%; Dielectric: X5R; Voltage Rating (DC): 25V; RoHS Compliant: Yes; ComponentLink1URL: https://search.murata.co.jp/Ceramy/image/img/A01X/G101/ENG/GRM033R61E102KA01-01.pdf; ComponentLink1Description: Datasheet; Capacitance: 1nF; Supplier 1: Digi-Key; Supplier Part Number 1: 490-14452-1-ND; Supplier 2: Mouser; Supplier Part Number 2: 81-GRM033R61E102KA1D; Mounting Type: SMD/SMT
footprint CAPC0603X33N (Chip Capacitor, EIA 0201, Metric 0603, Body 0.60x0.30mm, IPC Medium Density)
footprint CAPC0603X33L (Chip Capacitor, EIA 0201, Metric 0603, Body 0.60x0.30mm, IPC High Density)
footprint CAPC0603X33M (Chip Capacitor, EIA 0201, Metric 0603, Body 0.60x0.30mm, IPC Low Density)
simulation model GRM033R61E102KA01_DC0V_25degC (Model Description)
pins: 1, 2

## CAPC_MURATA_GRM033R61E472KA12D
designator C?, comment 4.7nF
4.7 nF ±10% 25V Ceramic Capacitor X5R 0201 (0603 Metric); Manufacturer: Murata; Manufacturer Part Number: GRM033R61E472KA12D; Category: Ceramic Capacitors; Case/Package: 0201; Min Operating Temperature: -55°C; Max Operating Temperature: 85°C; Tolerance: 10%; Dielectric: X5R; Voltage Rating (DC): 25V; RoHS Compliant: Yes; ComponentLink1URL: https://search.murata.co.jp/Ceramy/image/img/A01X/G101/ENG/GRM033R61E472KA12-01.pdf; ComponentLink1Description: Datasheet; Capacitance: 4.7nF; Supplier 1: Digi-Key; Supplier Part Number 1: 490-9993-1-ND; Supplier 2: Mouser; Supplier Part Number 2: 81-GRM33R61E472KA12D; Mounting Type: SMD/SMT
footprint CAPC0603X33N (Chip Capacitor, EIA 0201, Metric 0603, Body 0.60x0.30mm, IPC Medium Density)
footprint CAPC0603X33M (Chip Capacitor, EIA 0201, Metric 0603, Body 0.60x0.30mm, IPC Low Density)
footprint CAPC0603X33L (Chip Capacitor, EIA 0201, Metric 0603, Body 0.60x0.30mm, IPC High Density)
simulation model GRM033R61E472KA12_DC0V_25degC (Model Description)
pins: 1, 2

## CAPC_MURATA_GRM155R60J106ME15D
designator C?, comment 10uF
10 µF ±20% 6.3V Ceramic Capacitor X5R 0402 (1005 Metric); Manufacturer: Murata; Manufacturer Part Number: GRM155R60J106ME15D; Category: Ceramic Capacitors; Case/Package: 0402; Min Operating Temperature: -55°C; Max Operating Temperature: 85°C; Tolerance: 20%; Voltage Rating (DC): 6.3V; Dielectric: X5R; RoHS Compliant: Yes; ComponentLink1URL: https://www.murata.com/en-us/api/pdfdownloadapi?cate=luCeramicCapacitorsSMD&partno=GRM155R60J106ME15%23; ComponentLink1Description: Datasheet; Capacitance: 10uF; Supplier 1: Digi-Key; Supplier Part Number 1: 490-13238-1-ND; Supplier 2: Mouser; Supplier Part Number 2: 81-GRM155R60J106ME5D; Mounting Type: SMD/SMT
footprint CAPC1005X55N (Chip Capacitor, EIA 0402, Metric 1005, Body 1.00x0.50mm, IPC Medium Density)
footprint CAPC1005X55L (Chip Capacitor, EIA 0402, Metric 1005, Body 1.00x0.50mm, IPC High Density)
footprint CAPC1005X55M (Chip Capacitor, EIA 0402, Metric 1005, Body 1.00x0.50mm, IPC Low Density)
simulation model GRM155R60J106ME15_DC0V_25degC (Model Description)
pins: 1, 2

## CAPC_MURATA_GRM155R61A106ME11D
designator C?, comment 10uF
10 µF ±20% 10V Ceramic Capacitor X5R 0402 (1005 Metric); Manufacturer: Murata; Manufacturer Part Number: GRM155R61A106ME11D; Category: Ceramic Capacitors; Capacitance: 10uF; Dielectric: X5R; Max Operating Temperature: 85°C; Min Operating Temperature: -55°C; RoHS Compliant: Yes; Tolerance: 20%; Voltage Rating (DC): 10V; Supplier 1: Digi-Key; Supplier Part Number 1: 490-GRM155R61A106ME11DCT-ND; Supplier 2: Mouser; Supplier Part Number 2: 81-GRM155R61A106ME1D; Case/Package: 0402; ComponentLink1Description: Datasheet; ComponentLink1URL: https://eu.mouser.com/datasheet/2/281/1/GRM155R61A106ME11_01A-1983731.pdf; Mounting Type: SMD/SMT
footprint CAPC1005X70N (Chip Capacitor, EIA 0402, Metric 1005, Body 1.00x0.50mm, IPC Medium Density)
footprint CAPC1005X70L (Chip Capacitor, EIA 0402, Metric 1005, Body 1.00x0.50mm, IPC High Density)
footprint CAPC1005X70M (Chip Capacitor, EIA 0402, Metric 1005, Body 1.00x0.50mm, IPC Low Density)
simulation model GRM155R61A106ME11_DC0V_25degC (Model Description)
pins: 1, 2

## CAPC_MURATA_GRM155R61A475MEAAD
designator C?, comment 4.7uF
4.7 µF ±20% 10V Ceramic Capacitor X5R 0402 (1005 Metric); Manufacturer: Murata; Manufacturer Part Number: GRM155R61A475MEAAD; Category: Ceramic Capacitors; Case/Package: 0402; Min Operating Temperature: -55°C; Max Operating Temperature: 85°C; Tolerance: 20%; RoHS Compliant: Yes; ComponentLink1URL: https://search.murata.co.jp/Ceramy/image/img/A01X/G101/ENG/GRM155R61A475MEAA-01.pdf; ComponentLink1Description: Datasheet; Capacitance: 4.7uF; Dielectric: X5R; Voltage Rating (DC): 10V; Supplier 1: Digi-Key; Supplier Part Number 1: 490-14306-1-ND; Supplier 2: Mouser; Supplier Part Number 2: 81-GRM155R61A475MEAD; Mounting Type: SMD/SMT
footprint CAPC1005X70N (Chip Capacitor, EIA 0402, Metric 1005, Body 1.00x0.50mm, IPC Medium Density)
footprint CAPC1005X70L (Chip Capacitor, EIA 0402, Metric 1005, Body 1.00x0.50mm, IPC High Density)
footprint CAPC1005X70M (Chip Capacitor, EIA 0402, Metric 1005, Body 1.00x0.50mm, IPC Low Density)
simulation model GRM155R61A475MEAA_DC0V_25degC (Model Description)
pins: 1, 2

## CAPC_MURATA_GRM155R61E105KA12J
designator C?, comment 1uF
1 µF ±10% 25V Ceramic Capacitor X5R 0402 (1005 Metric); Manufacturer: Murata; Manufacturer Part Number: GRM155R61E105KA12J; Category: Ceramic Capacitors; Case/Package: 0402; Min Operating Temperature: -55°C; Max Operating Temperature: 85°C; Tolerance: 10%; Voltage Rating (DC): 25V; Dielectric: X5R; RoHS Compliant: Yes; ComponentLink1URL: https://search.murata.co.jp/Ceramy/image/img/A01X/G101/ENG/GRM155R61E105KA12-01.pdf; ComponentLink1Description: Datasheet; Capacitance: 1uF; Supplier 1: Digi-Key; Supplier Part Number 1: 490-GRM155R61E105KA12JCT-ND; Supplier 2: Mouser; Supplier Part Number 2: 81-GRM155R61E105KA2J; Mounting Type: SMD/SMT
footprint CAPC1005X55N (Chip Capacitor, EIA 0402, Metric 1005, Body 1.00x0.50mm, IPC Medium Density)
footprint CAPC1005X55M (Chip Capacitor, EIA 0402, Metric 1005, Body 1.00x0.50mm, IPC Low Density)
footprint CAPC1005X55L (Chip Capacitor, EIA 0402, Metric 1005, Body 1.00x0.50mm, IPC High Density)
simulation model GRM155R61E105KA12_DC0V_25degC (Model Description)
pins: 1, 2

## CAPC_MURATA_GRM155R71E104KE14J
designator C?, comment 100nF
100 nF ±10% 25V Ceramic Capacitor X7R 0402 (1005 Metric); Manufacturer: Murata; Manufacturer Part Number: GRM155R71E104KE14J; Category: Ceramic Capacitors; Case/Package: 0402; Min Operating Temperature: -55°C; Max Operating Temperature: 125°C; Tolerance: 10%; Dielectric: X7R; Voltage Rating (DC): 25V; RoHS Compliant: Yes; ComponentLink1URL: https://search.murata.co.jp/Ceramy/image/img/A01X/G101/ENG/GRM155R71E104KE14-01.pdf; ComponentLink1Description: Datasheet; Supplier 1: Digi-Key; Supplier Part Number 1: 490-14603-1-ND; Supplier 2: Mouser; Supplier Part Number 2: 81-GRM155R71E104KE4J; Capacitance: 100nF; Mounting Type: SMD/SMT
footprint CAPC1005X55N (Chip Capacitor, EIA 0402, Metric 1005, Body 1.00x0.50mm, IPC Medium Density)
footprint CAPC1005X55M (Chip Capacitor, EIA 0402, Metric 1005, Body 1.00x0.50mm, IPC Low Density)
footprint CAPC1005X55L (Chip Capacitor, EIA 0402, Metric 1005, Body 1.00x0.50mm, IPC High Density)
simulation model GRM155R71E104KE14_DC0V_25degC (Model Description)
pins: 1, 2

## CAPC_MURATA_GRM188R60J226MEA0D
designator C?, comment 22uF
22 µF ±20% 6.3V Ceramic Capacitor X5R 0603 (1608 Metric); Manufacturer: Murata; Manufacturer Part Number: GRM188R60J226MEA0D; Category: Ceramic Capacitors; Case/Package: 0603; Min Operating Temperature: -55°C; Max Operating Temperature: 85°C; Tolerance: 20%; Dielectric: X5R; Voltage Rating (DC): 6.3V; RoHS Compliant: Yes; ComponentLink1URL: https://search.murata.co.jp/Ceramy/image/img/A01X/G101/ENG/GRM188R60J226MEA0-01.pdf; ComponentLink1Description: Datasheet; Capacitance: 22uF; Supplier 1: Digi-Key; Supplier Part Number 1: 490-7611-1-ND; Supplier 2: Mouser; Supplier Part Number 2: 81-GRM188R60J226ME0D; Mounting Type: SMD/SMT
footprint CAPC1608X100N (Chip Capacitor, EIA 0603, Metric 1608, Body 1.60x0.80mm, IPC Medium Density)
footprint CAPC1608X100M (Chip Capacitor, EIA 0603, Metric 1608, Body 1.60x0.80mm, IPC Low Density)
footprint CAPC1608X100L (Chip Capacitor, EIA 0603, Metric 1608, Body 1.60x0.80mm, IPC High Density)
simulation model GRM188R60J226MEA0_DC0V_25degC (Model Description)
pins: 1, 2

## CAPC_MURATA_GRM188R61E106MA73D
designator C?, comment 10uF
10 µF ±20% 25V Ceramic Capacitor X5R 0603 (1608 Metric); Manufacturer: Murata; Manufacturer Part Number: GRM188R61E106MA73D; Category: Ceramic Capacitors; Case/Package: 0603; Min Operating Temperature: -55°C; Max Operating Temperature: 85°C; Tolerance: 20%; Dielectric: X5R; Voltage Rating (DC): 25V; RoHS Compliant: Yes; ComponentLink1URL: https://search.murata.co.jp/Ceramy/image/img/A01X/G101/ENG/GRM188R61E106MA73-01.pdf; ComponentLink1Description: Datasheet; Capacitance: 10uF; Supplier 1: Digi-Key; Supplier Part Number 1: 490-7202-1-ND; Supplier 2: Mouser; Supplier Part Number 2: 81-GRM188R61E106MA3D; Mounting Type: SMD/SMT
footprint CAPC1608X100N (Chip Capacitor, EIA 0603, Metric 1608, Body 1.60x0.80mm, IPC Medium Density)
footprint CAPC1608X100L (Chip Capacitor, EIA 0603, Metric 1608, Body 1.60x0.80mm, IPC High Density)
footprint CAPC1608X100M (Chip Capacitor, EIA 0603, Metric 1608, Body 1.60x0.80mm, IPC Low Density)
simulation model GRM188R61E106MA73_DC0V_25degC (Model Description)
pins: 1, 2

## CAPC_MURATA_GRM0335C1E101JA01D
designator C?, comment 100pF
100 pF ±5% 25V Ceramic Capacitor C0G, NP0 0201 (0603 Metric); Manufacturer: Murata; Manufacturer Part Number: GRM0335C1E101JA01D; Category: Ceramic Capacitors; Case/Package: 0201; Min Operating Temperature: -55°C; Max Operating Temperature: 125°C; Tolerance: 5%; Voltage Rating (DC): 25V; Dielectric: C0G; RoHS Compliant: Yes; ComponentLink1URL: https://search.murata.co.jp/Ceramy/image/img/A01X/G101/ENG/GRM0335C1E101JA01-01.pdf; ComponentLink1Description: Datasheet; Supplier 1: Digi-Key; Supplier Part Number 1: 490-3160-1-ND; Supplier 2: Mouser; Supplier Part Number 2: 81-GRM0335C1E101JA1D; Capacitance: 100pF; Mounting Type: SMD/SMT
footprint CAPC0603X33N (Chip Capacitor, EIA 0201, Metric 0603, Body 0.60x0.30mm, IPC Medium Density)
footprint CAPC0603X33M (Chip Capacitor, EIA 0201, Metric 0603, Body 0.60x0.30mm, IPC Low Density)
footprint CAPC0603X33L (Chip Capacitor, EIA 0201, Metric 0603, Body 0.60x0.30mm, IPC High Density)
simulation model GRM0335C1E101JA01_DC0V_25degC (Model Description)
pins: 1, 2

## CAPC_MURATA_GRM0335C1E120JA01D
designator C?, comment 12pF
12 pF ±5% 25V Ceramic Capacitor C0G, NP0 0201 (0603 Metric); Manufacturer: Murata; Manufacturer Part Number: GRM0335C1E120JA01D; Category: Ceramic Capacitors; Case/Package: 0201; Min Operating Temperature: -55°C; Max Operating Temperature: 125°C; Tolerance: 5%; Voltage Rating (DC): 25V; Dielectric: C0G; RoHS Compliant: Yes; ComponentLink1URL: https://search.murata.co.jp/Ceramy/image/img/A01X/G101/ENG/GRM0335C1E120JA01-01.pdf; ComponentLink1Description: Datasheet; Capacitance: 12pF; Supplier 1: Digi-Key; Supplier Part Number 1: 490-3144-1-ND; Supplier 2: Mouser; Supplier Part Number 2: 81-GRM0335C1E120JA1D; Mounting Type: SMD/SMT
footprint CAPC0603X33N (Chip Capacitor, EIA 0201, Metric 0603, Body 0.60x0.30mm, IPC Medium Density)
footprint CAPC0603X33M (Chip Capacitor, EIA 0201, Metric 0603, Body 0.60x0.30mm, IPC Low Density)
footprint CAPC0603X33L (Chip Capacitor, EIA 0201, Metric 0603, Body 0.60x0.30mm, IPC High Density)
simulation model GRM0335C1E120JA01_DC0V_25degC (Model Description)
pins: 1, 2

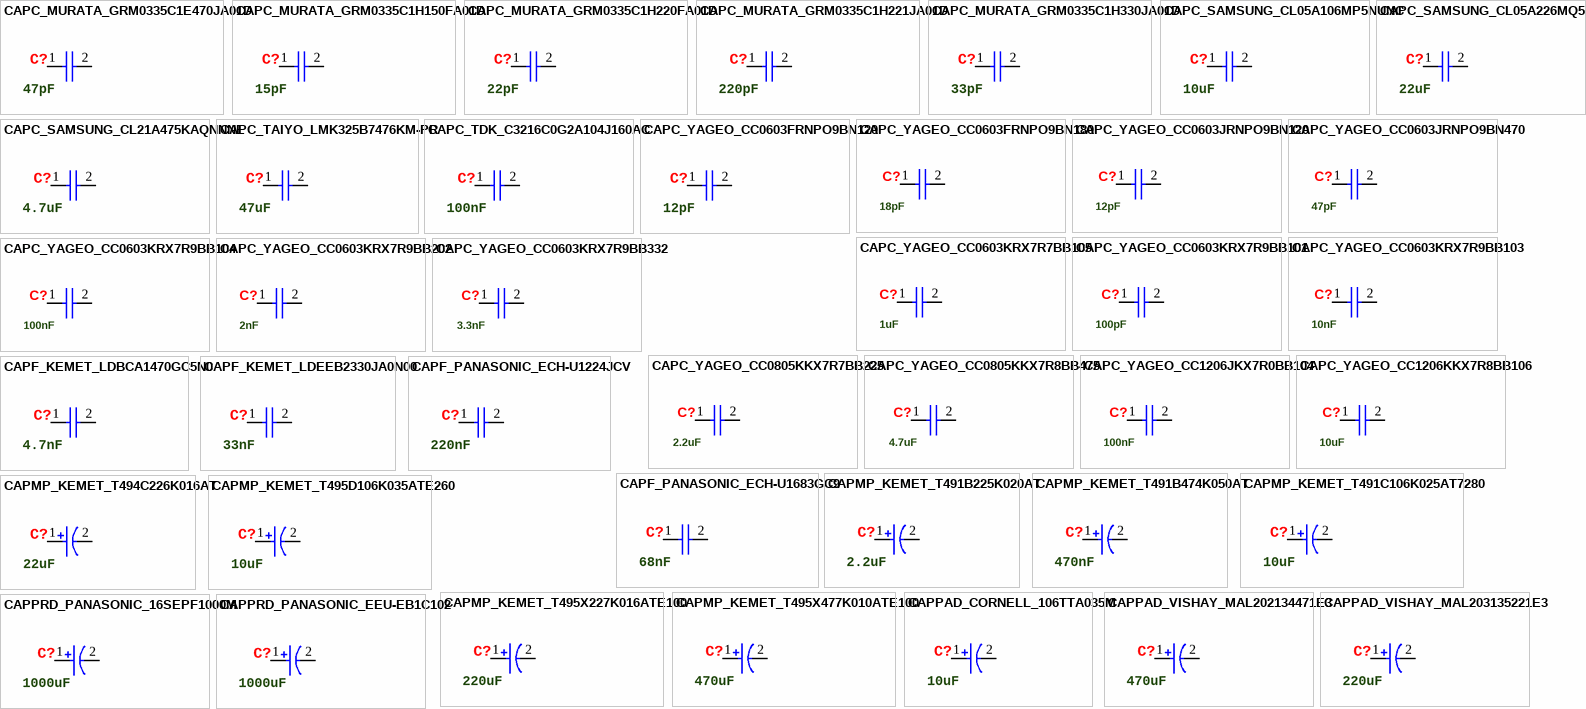
[diagram p1: symbols CAPC_MURATA_GRM0335C1E470JA01D to CAPPRD_PANASONIC_EEU-EB1C102]

## CAPC_MURATA_GRM0335C1E470JA01D
designator C?, comment 47pF
47 pF ±5% 25V Ceramic Capacitor C0G, NP0 0201 (0603 Metric); Manufacturer: Murata; Manufacturer Part Number: GRM0335C1E470JA01D; Category: Ceramic Capacitors; Case/Package: 0201; Min Operating Temperature: -55°C; Max Operating Temperature: 125°C; Tolerance: 5%; Dielectric: C0G; Voltage Rating (DC): 25V; RoHS Compliant: Yes; ComponentLink1URL: https://search.murata.co.jp/Ceramy/image/img/A01X/G101/ENG/GRM0335C1E470JA01-01.pdf; ComponentLink1Description: Datasheet; Capacitance: 47pF; Supplier 1: Digi-Key; Supplier Part Number 1: 490-1256-1-ND; Supplier 2: Mouser; Supplier Part Number 2: 81-GRM0335C1E470JA1D; Mounting Type: SMD/SMT
footprint CAPC0603X33N (Chip Capacitor, EIA 0201, Metric 0603, Body 0.60x0.30mm, IPC Medium Density)
footprint CAPC0603X33M (Chip Capacitor, EIA 0201, Metric 0603, Body 0.60x0.30mm, IPC Low Density)
footprint CAPC0603X33L (Chip Capacitor, EIA 0201, Metric 0603, Body 0.60x0.30mm, IPC High Density)
simulation model GRM0335C1E470JA01_DC0V_25degC (Model Description)
pins: 1, 2

## CAPC_MURATA_GRM0335C1H150FA01D
designator C?, comment 15pF
15 pF ±1% 50V Ceramic Capacitor C0G, NP0 0201 (0603 Metric); Manufacturer: Murata; Manufacturer Part Number: GRM0335C1H150FA01D; Category: Ceramic Capacitors; RoHS Compliant: Yes; Capacitance: 15pF; Dielectric: C0G; Max Operating Temperature: 125°C; Min Operating Temperature: -55°C; Tolerance: 1%; Voltage Rating (DC): 50V; Supplier 1: Digi-Key; Supplier Part Number 1: 490-GRM0335C1H150FA01DCT-ND; Supplier 2: Mouser; Supplier Part Number 2: 81-GRM0335C1H150FA1D; ComponentLink1Description: Datasheet; ComponentLink1URL: https://search.murata.co.jp/Ceramy/image/img/A01X/G101/ENG/GRM0335C1H150FA01-01.pdf; Case/Package: 0201; Mounting Type: SMD/SMT
footprint CAPC0603X33N (Chip Capacitor, EIA 0201, Metric 0603, Body 0.60x0.30mm, IPC Medium Density)
footprint CAPC0603X33L (Chip Capacitor, EIA 0201, Metric 0603, Body 0.60x0.30mm, IPC High Density)
footprint CAPC0603X33M (Chip Capacitor, EIA 0201, Metric 0603, Body 0.60x0.30mm, IPC Low Density)
simulation model GRM0335C1H150FA01_DC0V_25degC (Model Description)
pins: 1, 2

## CAPC_MURATA_GRM0335C1H220FA01D
designator C?, comment 22pF
22 pF ±1% 50V Ceramic Capacitor C0G, NP0 0201 (0603 Metric); Manufacturer: Murata; Manufacturer Part Number: GRM0335C1H220FA01D; Category: Ceramic Capacitors; RoHS Compliant: Yes; ComponentLink1Description: Datasheet; ComponentLink1URL: https://search.murata.co.jp/Ceramy/image/img/A01X/G101/ENG/GRM0335C1H220FA01-01.pdf; Capacitance: 22pF; Dielectric: C0G; Max Operating Temperature: 125°C; Min Operating Temperature: -55°C; Tolerance: 1%; Voltage Rating (DC): 50V; Supplier 1: Digi-Key; Supplier Part Number 1: 490-GRM0335C1H220FA01DCT-ND; Supplier 2: Mouser; Supplier Part Number 2: 81-GRM0335C1H220FA1D; Case/Package: 0201; Mounting Type: SMD/SMT
footprint CAPC0603X33N (Chip Capacitor, EIA 0201, Metric 0603, Body 0.60x0.30mm, IPC Medium Density)
footprint CAPC0603X33M (Chip Capacitor, EIA 0201, Metric 0603, Body 0.60x0.30mm, IPC Low Density)
footprint CAPC0603X33L (Chip Capacitor, EIA 0201, Metric 0603, Body 0.60x0.30mm, IPC High Density)
simulation model GRM0335C1H220GA01_DC0V_25degC (Model Description)
pins: 1, 2

## CAPC_MURATA_GRM0335C1H221JA01D
designator C?, comment 220pF
220 pF ±5% 50V Ceramic Capacitor C0G, NP0 0201 (0603 Metric); Manufacturer: Murata; Manufacturer Part Number: GRM0335C1H221JA01D; Category: Ceramic Capacitors; Case/Package: 0201; Min Operating Temperature: -55°C; Max Operating Temperature: 125°C; Tolerance: 5%; Dielectric: C0G; Voltage Rating (DC): 50V; RoHS Compliant: Yes; ComponentLink1URL: https://search.murata.co.jp/Ceramy/image/img/A01X/G101/ENG/GRM0335C1H221JA01-01.pdf; ComponentLink1Description: Datasheet; Capacitance: 220pF; Supplier 1: Digi-Key; Supplier Part Number 1: 490-11316-1-ND; Supplier 2: Mouser; Supplier Part Number 2: 81-GRM0335C1H221JA1D; Mounting Type: SMD/SMT
footprint CAPC0603X33N (Chip Capacitor, EIA 0201, Metric 0603, Body 0.60x0.30mm, IPC Medium Density)
footprint CAPC0603X33L (Chip Capacitor, EIA 0201, Metric 0603, Body 0.60x0.30mm, IPC High Density)
footprint CAPC0603X33M (Chip Capacitor, EIA 0201, Metric 0603, Body 0.60x0.30mm, IPC Low Density)
simulation model GRM0335C1H221JA01_DC0V_25degC (Model Description)
pins: 1, 2

## CAPC_MURATA_GRM0335C1H330JA01D
designator C?, comment 33pF
33 pF ±5% 50V Ceramic Capacitor C0G, NP0 0201 (0603 Metric); Manufacturer: Murata; Manufacturer Part Number: GRM0335C1H330JA01D; Category: Ceramic Capacitors; Case/Package: 0201; Min Operating Temperature: -55°C; Max Operating Temperature: 125°C; Voltage Rating (DC): 50V; Tolerance: 5%; Dielectric: C0G; RoHS Compliant: Yes; ComponentLink1URL: https://search.murata.co.jp/Ceramy/image/img/A01X/G101/ENG/GRM0335C1H330JA01-01.pdf; ComponentLink1Description: Datasheet; Capacitance: 33pF; Supplier 1: Digi-Key; Supplier Part Number 1: 490-6126-1-ND; Supplier 2: Mouser; Supplier Part Number 2: 81-GRM0335C1H330JA1D; Mounting Type: SMD/SMT
footprint CAPC0603X33N (Chip Capacitor, EIA 0201, Metric 0603, Body 0.60x0.30mm, IPC Medium Density)
footprint CAPC0603X33L (Chip Capacitor, EIA 0201, Metric 0603, Body 0.60x0.30mm, IPC High Density)
footprint CAPC0603X33M (Chip Capacitor, EIA 0201, Metric 0603, Body 0.60x0.30mm, IPC Low Density)
simulation model GRM0335C1H330JA01_DC0V_25degC (Model Description)
pins: 1, 2